# Altium schematic symbol library Capacitor SMD 6.6mm.SchLib: 1 symbol
Pins are listed as number, name and electrical type; pins without a type are passive.

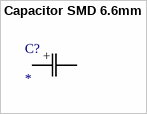
[diagram p0: symbol Capacitor SMD 6.6mm]

## Capacitor SMD 6.6mm
designator C?
footprint Capacitor SMD 6.6mm
pins: 1, 2
text: +